# Altium footprint library ICs And Semiconductors BONDING.PcbLib: 5 footprints
Each footprint in its own frame and in the unit in brackets; x right, y up, seen from the top. Pads: shape width x height; smd on the part's side, far side on the other; paste and mask are expansions set on the pad; w line width, h text height; cw(c..) or ccw(c..) is an arc to the next point about the centre after c.
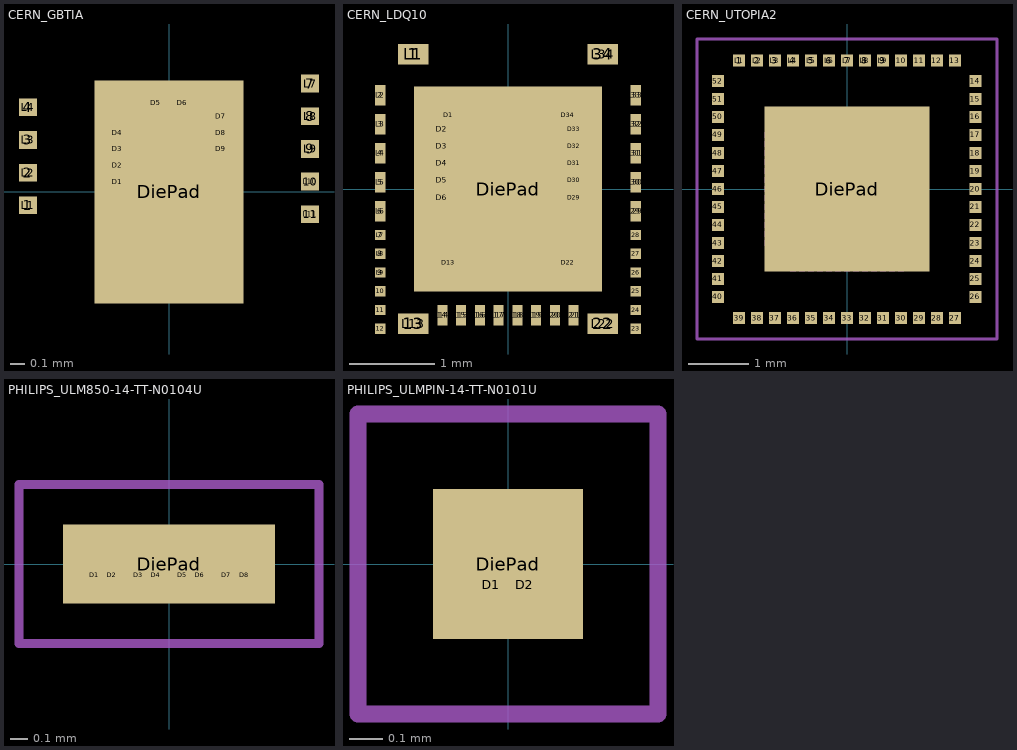
[diagram p0: the footprints below, top view; thin cyan lines are the x and y axes]

## CERN_GBTIA [mm]
height 0.254
pads (30):
  rect 0.12x0.12 smd paste-0.06: 1(-0.95,-0.09) 2(-0.95,0.13) 3(-0.95,0.35) 4(-0.95,0.57) 7(0.95,0.73) 8(0.95,0.51) 9(0.95,0.29) 10(0.95,0.07) 11(0.95,-0.15)
  rect 0.076x0.076 on Mid1: D1(-0.35,0.07) D2(-0.35,0.18) D3(-0.35,0.29) D4(-0.35,0.4) D5(-0.09,0.6) D6(0.09,0.6) D7(0.35,0.51) D8(0.35,0.4) D9(0.35,0.29) D10(0.35,0.18) D11(0.35,0.07)
  rect 1x1.5 smd paste-0.7: DiePad(0,0)
  rect 0.12x0.12 on Mid1: L1(-0.95,-0.09) L2(-0.95,0.13) L3(-0.95,0.35) L4(-0.95,0.57) L7(0.95,0.73) L8(0.95,0.51) L9(0.95,0.29) L10(0.95,0.07) L11(0.95,-0.15)
Mechanical 8:
  lines w0.01: -0.1,0 0,0 ; 0,-0.1 0,0 ; 0,0.1 0,0 ; 0.1,0 0,0
3D body: height 0.25, standoff 0, extent -0.406,-0.66 0.406,0.66

## CERN_LDQ10 [mm] "Quad Laser Diode Driver"
height 0.28
pads (111):
  rect 0.36x0.24 smd paste-0.2: 1(-1.11,1.58) 13(-1.11,-1.58) 22(1.11,-1.58) 34(1.11,1.58)
  rect 0.12x0.24 smd paste-0.15: 2(-1.5,1.1) 3(-1.5,0.76) 4(-1.5,0.42) 5(-1.5,0.08) 6(-1.5,-0.26) 14(-0.77,-1.48) 15(-0.55,-1.48) 16(-0.33,-1.48) 17(-0.11,-1.48) 18(0.11,-1.48) 19(0.33,-1.48) 20(0.55,-1.48) 21(0.77,-1.48) 29(1.5,-0.26) 30(1.5,0.08) 31(1.5,0.42) 32(1.5,0.76) 33(1.5,1.1)
  rect 0.12x0.12 smd paste-0.1: 7(-1.5,-0.54) 8(-1.5,-0.76) 9(-1.5,-0.98) 10(-1.5,-1.2) 11(-1.5,-1.42) 12(-1.5,-1.64) 23(1.5,-1.64) 24(1.5,-1.42) 25(1.5,-1.2) 26(1.5,-0.98) 27(1.5,-0.76) 28(1.5,-0.54)
  rect 0.275x0.1 on Mid1: D1(-0.7,0.865) D13(-0.7,-0.865) D22(0.7,-0.865) D34(0.7,0.865)
  rect 0.116x0.17 on Mid1: D2(-0.78,0.7) D3(-0.78,0.5) D4(-0.78,0.3) D5(-0.78,0.1) D6(-0.78,-0.1) D29(0.78,-0.1) D30(0.78,0.1) D31(0.78,0.3) D32(0.78,0.5) D33(0.78,0.7)
  rect 0.116x0.07 on Mid1: D7(-0.78,-0.25) D8(-0.78,-0.35) D9(-0.78,-0.45) D10(-0.78,-0.55) D11(-0.78,-0.65) D12(-0.78,-0.75) D23(0.78,-0.75) D24(0.78,-0.65) D25(0.78,-0.55) D26(0.78,-0.45) D27(0.78,-0.35) D28(0.78,-0.25)
  rect 0.054x0.066 on Mid1: D14(-0.425,-0.88) D15(-0.325,-0.88) D16(-0.175,-0.88) D17(-0.075,-0.88) D18(0.075,-0.88) D19(0.175,-0.88) D20(0.325,-0.88) D21(0.425,-0.88) D35(0.425,0.88) D36(0.325,0.88) D37(0.175,0.88) D38(0.075,0.88) D39(-0.075,0.88) D40(-0.175,0.88) D41(-0.325,0.88) D42(-0.425,0.88)
  rect 2.2x2.4 smd paste-1.1: DiePad(0,0)
  rect 0.36x0.24 on Mid1: L1(-1.11,1.58) L13(-1.11,-1.58) L22(1.11,-1.58) L34(1.11,1.58)
  rect 0.12x0.24 on Mid1: L2(-1.5,1.1) L3(-1.5,0.76) L4(-1.5,0.42) L5(-1.5,0.08) L6(-1.5,-0.26) L14(-0.77,-1.48) L15(-0.55,-1.48) L16(-0.33,-1.48) L17(-0.11,-1.48) L18(0.11,-1.48) L19(0.33,-1.48) L20(0.55,-1.48) L21(0.77,-1.48) L29(1.5,-0.26) L30(1.5,0.08) L31(1.5,0.42) L32(1.5,0.76) L33(1.5,1.1)
  rect 0.12x0.12 on Mid1: L7(-1.5,-0.54) L8(-1.5,-0.76) L9(-1.5,-0.98) L10(-1.5,-1.2) L11(-1.5,-1.42) L12(-1.5,-1.64) L23(1.5,-1.64) L24(1.5,-1.42) L25(1.5,-1.2) L26(1.5,-0.98) L27(1.5,-0.76) L28(1.5,-0.54)
Mechanical 8:
  lines w0.01: -0.1,0 0,0 ; 0,-0.1 0,0 ; 0,0.1 0,0 ; 0.1,0 0,0
3D body: height 0.25, standoff 0, extent -0.85,-0.9 0.85,0.9

## CERN_UTOPIA2 [mm] "Bonding, Body 2.75x2.75mm"
height 0.74
pads (157):
  rect 0.2x0.2 smd paste-0.2: 1(-1.8,2.14) 2(-1.5,2.14) 3(-1.2,2.14) 4(-0.9,2.14) 5(-0.6,2.14) 6(-0.3,2.14) 7(0,2.14) 8(0.3,2.14) 9(0.6,2.14) 10(0.9,2.14) 11(1.2,2.14) 12(1.5,2.14) 13(1.8,2.14) 14(2.14,1.8) 15(2.14,1.5) 16(2.14,1.2) 17(2.14,0.9) 18(2.14,0.6) 19(2.14,0.3) 20(2.14,0) 21(2.14,-0.3) 22(2.14,-0.6) 23(2.14,-0.9) 24(2.14,-1.2) 25(2.14,-1.5) 26(2.14,-1.8) 27(1.8,-2.15) 28(1.5,-2.15) 29(1.2,-2.15) 30(0.9,-2.15) 31(0.6,-2.15) 32(0.3,-2.15) 33(0,-2.15) 34(-0.3,-2.15) 35(-0.6,-2.15) 36(-0.9,-2.15) 37(-1.2,-2.15) 38(-1.5,-2.15) 39(-1.8,-2.15) 40(-2.15,-1.8) 41(-2.15,-1.5) 42(-2.15,-1.2) 43(-2.15,-0.9) 44(-2.15,-0.6) 45(-2.15,-0.3) 46(-2.15,0) 47(-2.15,0.3) 48(-2.15,0.6) 49(-2.15,0.9) 50(-2.15,1.2) 51(-2.15,1.5) 52(-2.15,1.8)
  rect 0.085x0.169 on Mid1: D1(-0.9,1.279) D2(-0.75,1.279) D3(-0.6,1.279) D4(-0.45,1.279) D5(-0.3,1.279) D6(-0.15,1.279) D7(0,1.279) D8(0.15,1.279) D9(0.3,1.279) D10(0.45,1.279) D11(0.6,1.279) D12(0.75,1.279) D13(0.9,1.279) D27(0.9,-1.28) D28(0.75,-1.28) D29(0.6,-1.28) D30(0.45,-1.28) D31(0.3,-1.28) D32(0.15,-1.28) D33(0,-1.28) D34(-0.15,-1.28) D35(-0.3,-1.28) D36(-0.45,-1.28) D37(-0.6,-1.28) D38(-0.75,-1.28) D39(-0.9,-1.28)
  rect 0.169x0.085 on Mid1: D14(1.279,0.9) D15(1.279,0.75) D16(1.279,0.6) D17(1.279,0.45) D18(1.279,0.3) D19(1.279,0.15) D20(1.279,0) D21(1.279,-0.15) D22(1.279,-0.3) D23(1.279,-0.45) D24(1.279,-0.6) D25(1.279,-0.75) D26(1.279,-0.9) D40(-1.28,-0.9) D41(-1.28,-0.75) D42(-1.28,-0.6) D43(-1.28,-0.45) D44(-1.28,-0.3) D45(-1.28,-0.15) D46(-1.28,0) D47(-1.28,0.15) D48(-1.28,0.3) D49(-1.28,0.45) D50(-1.28,0.6) D51(-1.28,0.75) D52(-1.28,0.9)
  rect 2.75x2.75 smd paste-1: DiePad(0,0)
  rect 0.2x0.2 on Mid1: L1(-1.8,2.14) L2(-1.5,2.14) L3(-1.2,2.14) L4(-0.9,2.14) L5(-0.6,2.14) L6(-0.3,2.14) L7(0,2.14) L8(0.3,2.14) L9(0.6,2.14) L10(0.9,2.14) L11(1.2,2.14) L12(1.5,2.14) L13(1.8,2.14) L14(2.14,1.8) L15(2.14,1.5) L16(2.14,1.2) L17(2.14,0.9) L18(2.14,0.6) L19(2.14,0.3) L20(2.14,0) L21(2.14,-0.3) L22(2.14,-0.6) L23(2.14,-0.9) L24(2.14,-1.2) L25(2.14,-1.5) L26(2.14,-1.8) L27(1.8,-2.15) L28(1.5,-2.15) L29(1.2,-2.15) L30(0.9,-2.15) L31(0.6,-2.15) L32(0.3,-2.15) L33(0,-2.15) L34(-0.3,-2.15) L35(-0.6,-2.15) L36(-0.9,-2.15) L37(-1.2,-2.15) L38(-1.5,-2.15) L39(-1.8,-2.15) L40(-2.15,-1.8) L41(-2.15,-1.5) L42(-2.15,-1.2) L43(-2.15,-0.9) L44(-2.15,-0.6) L45(-2.15,-0.3) L46(-2.15,0) L47(-2.15,0.3) L48(-2.15,0.6) L49(-2.15,0.9) L50(-2.15,1.2) L51(-2.15,1.5) L52(-2.15,1.8)
Mechanical 8:
  drawing of 648 lines, arcs and shapes, not listed
Mechanical 15:
  lines w0.05: -2.5,-2.5 -2.5,2.5 2.5,2.5 2.5,-2.5 -2.5,-2.5
3D body "CERN_UTOPIA2.stp": height 0.74, standoff 0, extent -1.374,-1.374 1.374,1.375

## PHILIPS_ULM850-14-TT-N0104U [mm] "4x Fiber Optic Surface-Emitting Laser, Anode and Cathode Wire Bonding on Top Side"
height 0.15
pads (9):
  round 0.06 on Mid1: D1(-0.425,-0.062) D2(-0.325,-0.062) D3(-0.175,-0.062) D4(-0.075,-0.062) D5(0.075,-0.062) D6(0.175,-0.062) D7(0.325,-0.062) D8(0.425,-0.062)
  rect 1.2x0.45 smd paste-0.5: DiePad(0,0)
Mechanical 8:
  lines w0.01: -0.425,0.035 -0.375,0.035 ; -0.375,-0.015 -0.375,0.035 ; -0.375,0.085 -0.375,0.035 ; -0.325,0.035 -0.375,0.035 ; -0.175,0.035 -0.125,0.035 ; -0.125,-0.015 -0.125,0.035 ; -0.125,0.085 -0.125,0.035 ; -0.1,0 0,0 ; -0.075,0.035 -0.125,0.035 ; 0,-0.1 0,0 ; 0,0.1 0,0 ; 0.075,0.035 0.125,0.035 ; 0.1,0 0,0 ; 0.125,-0.015 0.125,0.035 ; 0.125,0.085 0.125,0.035 ; 0.175,0.035 0.125,0.035 ; 0.325,0.035 0.375,0.035 ; 0.375,-0.015 0.375,0.035 ; 0.375,0.085 0.375,0.035 ; 0.425,0.035 0.375,0.035
Mechanical 14:
  lines w0.05: -0.25,-0.125 -0.25,0.125 ; -0.25,-0.125 -0.5,-0.125 -0.5,0.125 -0.25,0.125 ; -0.25,-0.125 0,-0.125 ; -0.25,0.125 0,0.125 ; 0,-0.125 0,0.125 ; 0,-0.125 0.25,-0.125 ; 0,0.125 0.25,0.125 ; 0.25,-0.125 0.25,0.125 ; 0.25,-0.125 0.5,-0.125 0.5,0.125 0.25,0.125
Mechanical 15:
  lines w0.05: -0.85,-0.45 -0.85,0.45 0.85,0.45 0.85,-0.45 -0.85,-0.45
3D body "PHILIPS_ULM850-14-TT-N0104U.stp": height 0.15, standoff 0, extent -0.492,-0.117 0.493,0.118

## PHILIPS_ULMPIN-14-TT-N0101U [mm] "Fiber Optic Photodiode Detector, Anode and Cathode Wire Bonding on Front Side"
height 0.15
pads (3):
  round 0.06 on Mid1: D1(-0.05,-0.062) D2(0.05,-0.062)
  rect 0.45x0.45 smd paste-1.5: DiePad(0,0)
Mechanical 8:
  lines w0.01: -0.1,0 0,0 ; -0.05,0.035 0,0.035 ; 0,-0.1 0,0 ; 0,0.085 0,0.035 ; 0.05,0.035 0,0.035 ; 0.1,0 0,0
Mechanical 14:
  lines w0.05: -0.125,-0.125 -0.125,0.125 0.125,0.125 0.125,-0.125 -0.125,-0.125
Mechanical 15:
  lines w0.05: -0.45,-0.45 0.45,-0.45 0.45,0.45 -0.45,0.45 -0.45,-0.45
3D body "PHILIPS_ULMPIN-14-TT-N0101U.stp": height 0.15, standoff 0, extent -0.117,-0.117 0.118,0.118